# EAGLE library part POWER_SUPPLY (library Mylib)
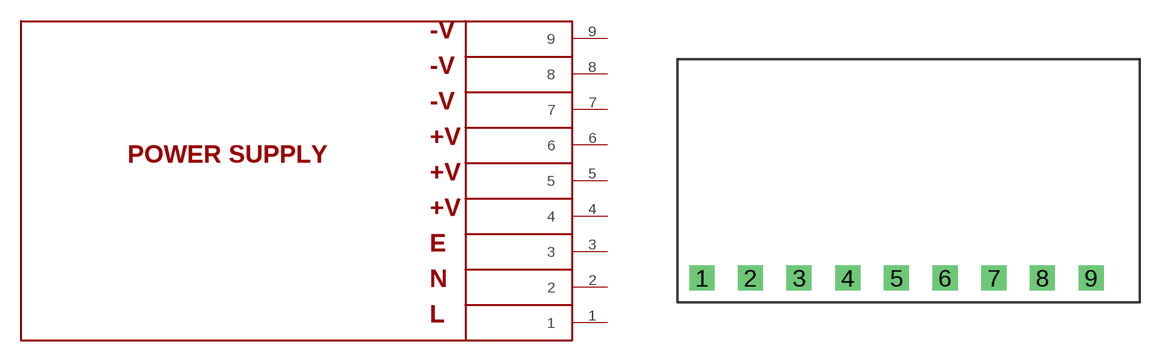
[diagram p7: symbol with the pads of POWER_SUPPLY; footprint POWER_SUPPLY]

Designator prefix -

## POWER_SUPPLY  [POWER_SUPPLY]
1  1
2  2
3  3
4  4
5  5
6  6
7  7
8  8
9  9

## Footprint POWER_SUPPLY (pad centres in mm)
drill 0.8 square: 1 -11.43,-6.35; 2 -8.89,-6.35; 3 -6.35,-6.35; 4 -3.81,-6.35; 5 -1.27,-6.35; 6 1.27,-6.35; 7 3.81,-6.35; 8 6.35,-6.35; 9 8.89,-6.35